# Altium footprint library BackBoard.PcbLib: 3 footprints
Each footprint in its own frame and in the unit in brackets; x right, y up, seen from the top. Pads: shape width x height; smd on the part's side, far side on the other; paste and mask are expansions set on the pad; w line width, h text height; cw(c..) or ccw(c..) is an arc to the next point about the centre after c.
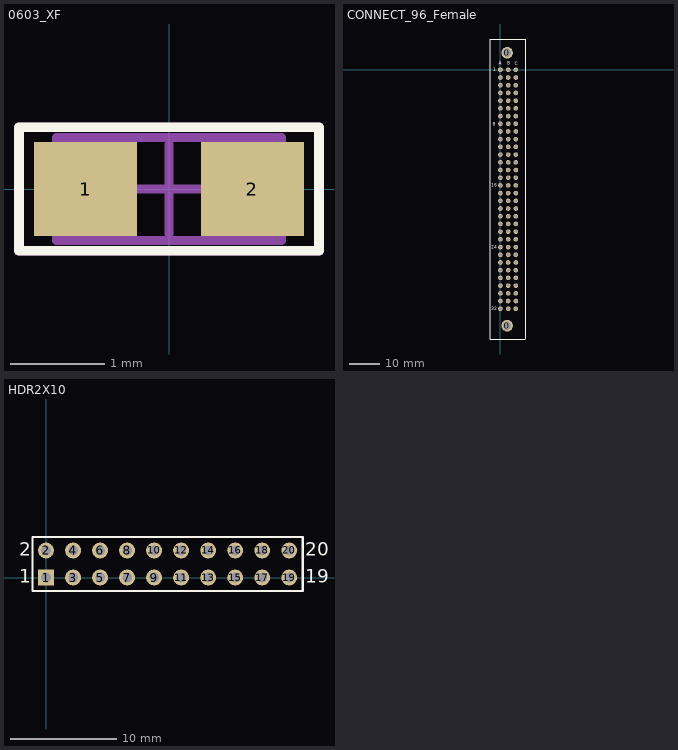
[diagram p0: the footprints below, top view; thin cyan lines are the x and y axes]

## 0603_XF [mm]
height 0.9
pads (2):
  rect 1.1x1 smd: 1(-0.889,0) 2(0.889,0)
Top Overlay:
  lines w0.102: -1.6,-0.66 -1.6,0.66 1.6,0.66 1.6,-0.66 -1.6,-0.66
Mechanical 13:
  lines w0.1: -1.2,-0.55 -1.2,0.55 1.2,0.55 1.2,-0.55 -1.2,-0.55
Mechanical 15:
  lines w0.1: -0.475,0 0.475,0 ; 0,-0.475 0,0.475
  lines w0.102: -1.6,-0.66 1.6,-0.66 1.6,0.66 -1.6,0.66 -1.6,-0.66
3D body "User Library-RES_1609-0603.step": height 0.56, standoff 0, extent -0.85,-0.4 0.85,0.4

## CONNECT_96_Female [mil]
height 79.92
pads (98):
  round 150 hole 106.3: 0(86.61,-3320.47) 0(86.61,220.47)
  oct 60x60 hole 37: A1(0,0)
  round 60 hole 37: A2(0,-100) A3(0,-200) A4(0,-300) A5(0,-400) A6(0,-500) A7(0,-600) A8(0,-700) A9(0,-800) A10(0,-900) A11(0,-1000) A12(0,-1100) A13(0,-1200) A14(0,-1300) A15(0,-1400) A16(0,-1500) A17(0,-1600) A18(0,-1700) A19(0,-1800) A20(0,-1900) A21(0,-2000) A22(0,-2100) A23(0,-2200) A24(0,-2300) A25(0,-2400) A26(0,-2500) A27(0,-2600) A28(0,-2700) A29(0,-2800) A30(0,-2900) A31(0,-3000) A32(0,-3100) B1(100,0) B2(100,-100) B3(100,-200) B4(100,-300) B5(100,-400) B6(100,-500) B7(100,-600) B8(100,-700) B9(100,-800) B10(100,-900) B11(100,-1000) B12(100,-1100) B13(100,-1200) B14(100,-1300) B15(100,-1400) B16(100,-1500) B17(100,-1600) B18(100,-1700) B19(100,-1800) B20(100,-1900) B21(100,-2000) B22(100,-2100) B23(100,-2200) B24(100,-2300) B25(100,-2400) B26(100,-2500) B27(100,-2600) B28(100,-2700) B29(100,-2800) B30(100,-2900) B31(100,-3000) B32(100,-3100) C1(200,0) C2(200,-100) C3(200,-200) C4(200,-300) C5(200,-400) C6(200,-500) C7(200,-600) C8(200,-700) C9(200,-800) C10(200,-900) C11(200,-1000) C12(200,-1100) C13(200,-1200) C14(200,-1300) C15(200,-1400) C16(200,-1500) C17(200,-1600) C18(200,-1700) C19(200,-1800) C20(200,-1900) C21(200,-2000) C22(200,-2100) C23(200,-2200) C24(200,-2300) C25(200,-2400) C26(200,-2500) C27(200,-2600) C28(200,-2700) C29(200,-2800) C30(200,-2900) C31(200,-3000) C32(200,-3100)
Top Overlay:
  lines w8: 329,-3207 329,-3486 322,-3493 -133,-3493 -133,400 329,400 329,93
  lines w10: 329,-3207 329,93
  text "A" at -19,66 h42
  text "B" at 88,65 h42
  text "C" at 188,61 h42
  text "1" at -91,-18 h42
  text "8" at -99,-726 h42
  text "16" at -118,-1517 h42
  text "24" at -118,-2321 h42
  text "32" at -118,-3117 h42
3D body "User Library-DIN41612-C-96-F.step": height 456.69, standoff -157.48, extent -106.69,-3420.08 306.69,320.08

## HDR2X10 [mm] "Connector; Header; 10x2 Position"
height 0.9
pads (20):
  rect 1.5x1.5 hole 0.9: 1(0,0)
  round 1.5 hole 0.9: 2(0,2.54) 3(2.54,0) 4(2.54,2.54) 5(5.08,0) 6(5.08,2.54) 7(7.62,0) 8(7.62,2.54) 9(10.16,0) 10(10.16,2.54) 11(12.7,0) 12(12.7,2.54) 13(15.24,0) 14(15.24,2.54) 15(17.78,0) 16(17.78,2.54) 17(20.32,0) 18(20.32,2.54) 19(22.86,0) 20(22.86,2.54)
Top Overlay:
  lines w0.2: -1.27,-1.27 -1.27,3.81 0.635,3.81 24.13,3.81 24.13,-1.27 0.635,-1.27 -1.27,-1.27
  text "2" at -2.54,2.032 h1.27
  text "1" at -2.54,-0.508 h1.27
  text "19" at 24.384,-0.508 h1.27
  text "20" at 24.384,2.032 h1.27